# Altium footprint library SGK_DVR_01.PcbLib: 37 footprints (part 1 of 3)
Each footprint in its own frame and in the unit in brackets; x right, y up, seen from the top. Pads: shape width x height; smd on the part's side, far side on the other; paste and mask are expansions set on the pad; w line width, h text height; cw(c..) or ccw(c..) is an arc to the next point about the centre after c.
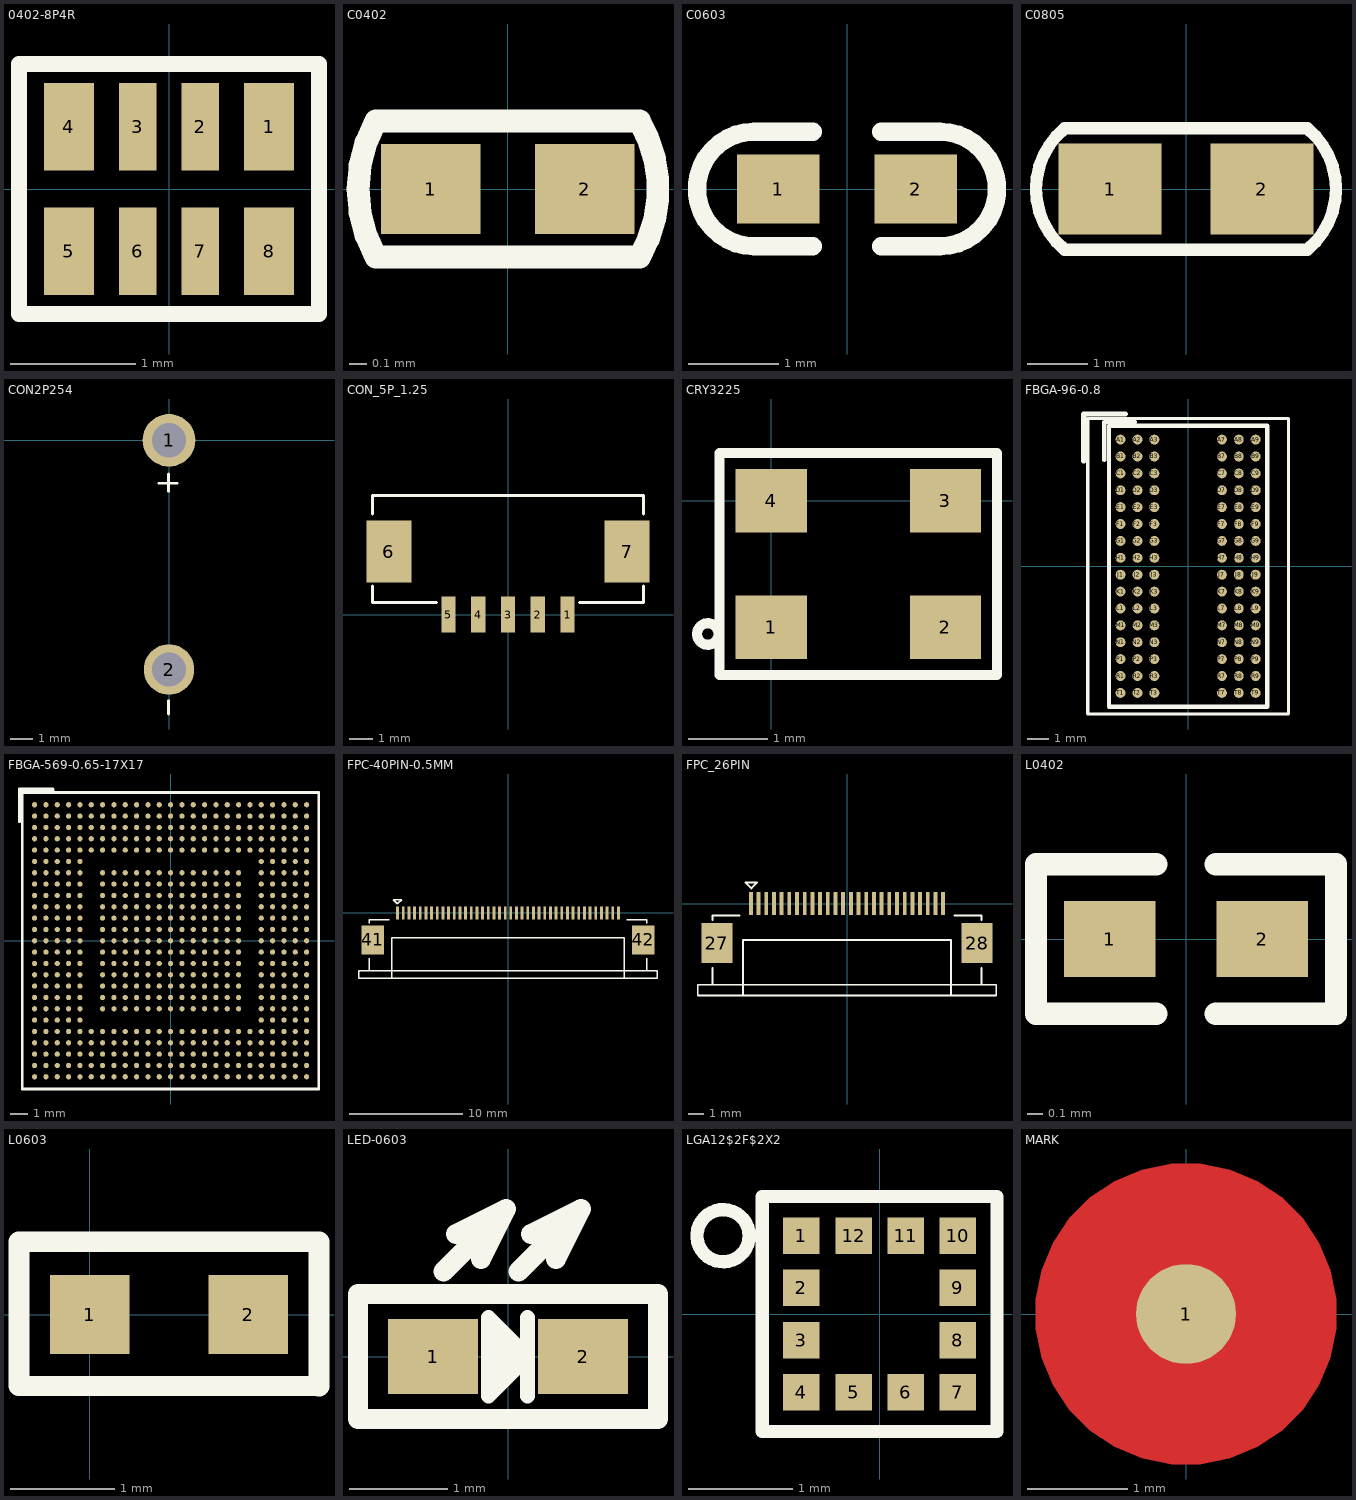
[diagram p0: the footprints below, top view; thin cyan lines are the x and y axes]

## 0402-8P4R [mm]
pads (8):
  rect 0.4x0.7 smd: 1(0.8,0.5) 4(-0.8,0.5) 5(-0.8,-0.5) 8(0.8,-0.5)
  rect 0.3x0.7 smd: 2(0.25,0.5) 3(-0.25,0.5) 6(-0.25,-0.5) 7(0.25,-0.5)
Top Overlay:
  lines w0.127: -1.2,-1 1.2,-1 1.2,1 -1.2,1 -1.2,-1

## C0402 [mil]
pads (2):
  rect 22x20 smd: 1(-17,0) 2(17,0)
Top Overlay:
  lines w5: 29.12,15.06 cw(c3.45,0) 29.15,-15.02 ; 29.13,-15.04 -29.13,-15.04 cw(c-2.55,0) -29.13,15.04 29.13,15.04

## C0603 [mil]
pads (2):
  rect 36x30 smd: 1(-30,0) 2(30,0)
Top Overlay:
  lines w8: -15,-25 -40.49,-25 cw(c-40.49,0) -40.49,25 -15,25 ; 15,-25 40.49,-25 ccw(c40.49,0) 40.49,25 15,25

## C0805 [mm]
pads (2):
  rect 1.7x1.5 smd: 1(-1.25,0) 2(1.25,0)
Top Overlay:
  lines w0.202: -2,-1 cw(c-1.173,0) -2,1 2,1 cw(c1.173,0) 2,-1 -2,-1

## CON2P254 [mm]
pads (2):
  round 2.3 hole 1.5: 1(0,0)
  round 2.2 hole 1.5: 2(0,-10)
Top Overlay:
  lines w0.127: -0.44,-1.87 0.36,-1.87 ; -0.03,-11.94 -0.03,-11.36 ; -0.03,-2.22 -0.03,-1.46

## CON_5P_1.25 [mm]
pads (7):
  rect 0.6x1.5 smd: 1(2.5,0) 2(1.25,0) 3(0,0) 4(-1.25,0) 5(-2.5,0)
  rect 1.9x2.6 smd: 6(-5,2.65) 7(5,2.65)
Top Overlay:
  lines w0.127: -5.7,1.21 -5.7,0.5 -3,0.5 ; -5.7,4.22 -5.7,5 5.7,5 5.7,4.22 ; 3,0.5 5.7,0.5 5.7,1.21

## CRY3225 [mm]
pads (4):
  rect 0.9x0.8 smd: 1(0,-1.6) 2(2.2,-1.6) 3(2.2,0) 4(0,0)
Top Overlay:
  circle w0.127: c-0.8,-1.683 r0.136
  lines w0.127: -0.65,-2.2 2.85,-2.2 2.85,0.6 -0.65,0.6 -0.65,-2.2

## FBGA-96-0.8 [mm]
pads (96):
  round 0.47 smd: A1(-3.2,6) A2(-2.4,6) A3(-1.6,6) A7(1.6,6) A8(2.4,6) A9(3.2,6) B1(-3.2,5.2) B2(-2.4,5.2) B3(-1.6,5.2) B7(1.6,5.2) B8(2.4,5.2) B9(3.2,5.2) C1(-3.2,4.4) C2(-2.4,4.4) C3(-1.6,4.4) C7(1.6,4.4) C8(2.4,4.4) C9(3.2,4.4) D1(-3.2,3.6) D2(-2.4,3.6) D3(-1.6,3.6) D7(1.6,3.6) D8(2.4,3.6) D9(3.2,3.6) E1(-3.2,2.8) E2(-2.4,2.8) E3(-1.6,2.8) E7(1.6,2.8) E8(2.4,2.8) E9(3.2,2.8) F1(-3.2,2) F2(-2.4,2) F3(-1.6,2) F7(1.6,2) F8(2.4,2) F9(3.2,2) G1(-3.2,1.2) G2(-2.4,1.2) G3(-1.6,1.2) G7(1.6,1.2) G8(2.4,1.2) G9(3.2,1.2) H1(-3.2,0.4) H2(-2.4,0.4) H3(-1.6,0.4) H7(1.6,0.4) H8(2.4,0.4) H9(3.2,0.4) J1(-3.2,-0.4) J2(-2.4,-0.4) J3(-1.6,-0.4) J7(1.6,-0.4) J8(2.4,-0.4) J9(3.2,-0.4) K1(-3.2,-1.2) K2(-2.4,-1.2) K3(-1.6,-1.2) K7(1.6,-1.2) K8(2.4,-1.2) K9(3.2,-1.2) L1(-3.2,-2) L2(-2.4,-2) L3(-1.6,-2) L7(1.6,-2) L8(2.4,-2) L9(3.2,-2) M1(-3.2,-2.8) M2(-2.4,-2.8) M3(-1.6,-2.8) M7(1.6,-2.8) M8(2.4,-2.8) M9(3.2,-2.8) N1(-3.2,-3.6) N2(-2.4,-3.6) N3(-1.6,-3.6) N7(1.6,-3.6) N8(2.4,-3.6) N9(3.2,-3.6) P1(-3.2,-4.4) P2(-2.4,-4.4) P3(-1.6,-4.4) P7(1.6,-4.4) P8(2.4,-4.4) P9(3.2,-4.4) R1(-3.2,-5.2) R2(-2.4,-5.2) R3(-1.6,-5.2) R7(1.6,-5.2) R8(2.4,-5.2) R9(3.2,-5.2) T1(-3.2,-6) T2(-2.4,-6) T3(-1.6,-6) T7(1.6,-6) T8(2.4,-6) T9(3.2,-6)
Top Overlay:
  lines w0.152: -4.75,-7 4.75,-7 4.75,7 -4.75,7 -4.75,-7
  lines w0.203: -3.97,5.03 -3.97,6.83 -2.52,6.83 ; -3.75,-6.65 3.75,-6.65 3.75,6.65 -3.75,6.65 -3.75,-6.65
  lines w0.25: -4.95,4.982 -4.95,7.213 -2.972,7.213

## FBGA-569-0.65-17X17 [mm]
pads (569):
  round 0.3 smd: A1(-7.8,7.8) A2(-7.15,7.8) A3(-6.5,7.8) A4(-5.85,7.8) A5(-5.2,7.8) A6(-4.55,7.8) A7(-3.9,7.8) A8(-3.25,7.8) A9(-2.6,7.8) A10(-1.95,7.8) A11(-1.3,7.8) A12(-0.65,7.8) A13(0,7.8) A14(0.65,7.8) A15(1.3,7.8) A16(1.95,7.8) A17(2.6,7.8) A18(3.25,7.8) A19(3.9,7.8) A20(4.55,7.8) A21(5.2,7.8) A22(5.85,7.8) A23(6.5,7.8) A24(7.15,7.8) A25(7.8,7.8) AA1(-7.8,-5.2) AA2(-7.15,-5.2) AA3(-6.5,-5.2) AA4(-5.85,-5.2) AA5(-5.2,-5.2) AA6(-4.55,-5.2) AA7(-3.9,-5.2) AA8(-3.25,-5.2) AA9(-2.6,-5.2) AA10(-1.95,-5.2) AA11(-1.3,-5.2) AA12(-0.65,-5.2) AA13(0,-5.2) AA14(0.65,-5.2) AA15(1.3,-5.2) AA16(1.95,-5.2) AA17(2.6,-5.2) AA18(3.25,-5.2) AA19(3.9,-5.2) AA20(4.55,-5.2) AA21(5.2,-5.2) AA22(5.85,-5.2) AA23(6.5,-5.2) AA24(7.15,-5.2) AA25(7.8,-5.2) AB1(-7.8,-5.85) AB2(-7.15,-5.85) AB3(-6.5,-5.85) AB4(-5.85,-5.85) AB5(-5.2,-5.85) AB6(-4.55,-5.85) AB7(-3.9,-5.85) AB8(-3.25,-5.85) AB9(-2.6,-5.85) AB10(-1.95,-5.85) AB11(-1.3,-5.85) AB12(-0.65,-5.85) AB13(0,-5.85) AB14(0.65,-5.85) AB15(1.3,-5.85) AB16(1.95,-5.85) AB17(2.6,-5.85) AB18(3.25,-5.85) AB19(3.9,-5.85) AB20(4.55,-5.85) AB21(5.2,-5.85) AB22(5.85,-5.85) AB23(6.5,-5.85) AB24(7.15,-5.85) AB25(7.8,-5.85) AC1(-7.8,-6.5) AC2(-7.15,-6.5) AC3(-6.5,-6.5) AC4(-5.85,-6.5) AC5(-5.2,-6.5) AC6(-4.55,-6.5) AC7(-3.9,-6.5) AC8(-3.25,-6.5) AC9(-2.6,-6.5) AC10(-1.95,-6.5) AC11(-1.3,-6.5) AC12(-0.65,-6.5) AC13(0,-6.5) AC14(0.65,-6.5) AC15(1.3,-6.5) AC16(1.95,-6.5) AC17(2.6,-6.5) AC18(3.25,-6.5) AC19(3.9,-6.5) AC20(4.55,-6.5) AC21(5.2,-6.5) AC22(5.85,-6.5) AC23(6.5,-6.5) AC24(7.15,-6.5) AC25(7.8,-6.5) AD1(-7.8,-7.15) AD2(-7.15,-7.15) AD3(-6.5,-7.15) AD4(-5.85,-7.15) AD5(-5.2,-7.15) AD6(-4.55,-7.15) AD7(-3.9,-7.15) AD8(-3.25,-7.15) AD9(-2.6,-7.15) AD10(-1.95,-7.15) AD11(-1.3,-7.15) AD12(-0.65,-7.15) AD13(0,-7.15) AD14(0.65,-7.15) AD15(1.3,-7.15) AD16(1.95,-7.15) AD17(2.6,-7.15) AD18(3.25,-7.15) AD19(3.9,-7.15) AD20(4.55,-7.15) AD21(5.2,-7.15) AD22(5.85,-7.15) AD23(6.5,-7.15) AD24(7.15,-7.15) AD25(7.8,-7.15) AE1(-7.8,-7.8) AE2(-7.15,-7.8) AE3(-6.5,-7.8) AE4(-5.85,-7.8) AE5(-5.2,-7.8) AE6(-4.55,-7.8) AE7(-3.9,-7.8) AE8(-3.25,-7.8) AE9(-2.6,-7.8) AE10(-1.95,-7.8) AE11(-1.3,-7.8) AE12(-0.65,-7.8) AE13(0,-7.8) AE14(0.65,-7.8) AE15(1.3,-7.8) AE16(1.95,-7.8) AE17(2.6,-7.8) AE18(3.25,-7.8) AE19(3.9,-7.8) AE20(4.55,-7.8) AE21(5.2,-7.8) AE22(5.85,-7.8) AE23(6.5,-7.8) AE24(7.15,-7.8) AE25(7.8,-7.8) B1(-7.8,7.15) B2(-7.15,7.15) B3(-6.5,7.15) B4(-5.85,7.15) B5(-5.2,7.15) B6(-4.55,7.15) B7(-3.9,7.15) B8(-3.25,7.15) B9(-2.6,7.15) B10(-1.95,7.15) B11(-1.3,7.15) B12(-0.65,7.15) B13(0,7.15) B14(0.65,7.15) B15(1.3,7.15) B16(1.95,7.15) B17(2.6,7.15) B18(3.25,7.15) B19(3.9,7.15) B20(4.55,7.15) B21(5.2,7.15) B22(5.85,7.15) B23(6.5,7.15) B24(7.15,7.15) B25(7.8,7.15) C1(-7.8,6.5) C2(-7.15,6.5) C3(-6.5,6.5) C4(-5.85,6.5) C5(-5.2,6.5) C6(-4.55,6.5) C7(-3.9,6.5) C8(-3.25,6.5) C9(-2.6,6.5) C10(-1.95,6.5) C11(-1.3,6.5) C12(-0.65,6.5) C13(0,6.5) C14(0.65,6.5) C15(1.3,6.5) C16(1.95,6.5) C17(2.6,6.5) C18(3.25,6.5) C19(3.9,6.5) C20(4.55,6.5) C21(5.2,6.5) C22(5.85,6.5) C23(6.5,6.5) C24(7.15,6.5) C25(7.8,6.5) D1(-7.8,5.85) D2(-7.15,5.85) D3(-6.5,5.85) D4(-5.85,5.85) D5(-5.2,5.85) D6(-4.55,5.85) D7(-3.9,5.85) D8(-3.25,5.85) D9(-2.6,5.85) D10(-1.95,5.85) D11(-1.3,5.85) D12(-0.65,5.85) D13(0,5.85) D14(0.65,5.85) D15(1.3,5.85) D16(1.95,5.85) D17(2.6,5.85) D18(3.25,5.85) D19(3.9,5.85) D20(4.55,5.85) D21(5.2,5.85) D22(5.85,5.85) D23(6.5,5.85) D24(7.15,5.85) D25(7.8,5.85) E1(-7.8,5.2) E2(-7.15,5.2) E3(-6.5,5.2) E4(-5.85,5.2) E5(-5.2,5.2) E6(-4.55,5.2) E7(-3.9,5.2) E8(-3.25,5.2) E9(-2.6,5.2) E10(-1.95,5.2) E11(-1.3,5.2) E12(-0.65,5.2) E13(0,5.2) E14(0.65,5.2) E15(1.3,5.2) E16(1.95,5.2) E17(2.6,5.2) E18(3.25,5.2) E19(3.9,5.2) E20(4.55,5.2) E21(5.2,5.2) E22(5.85,5.2) E23(6.5,5.2) E24(7.15,5.2) E25(7.8,5.2) F1(-7.8,4.55) F2(-7.15,4.55) F3(-6.5,4.55) F4(-5.85,4.55) F5(-5.2,4.55) F21(5.2,4.55) F22(5.85,4.55) F23(6.5,4.55) F24(7.15,4.55) F25(7.8,4.55) G1(-7.8,3.9) G2(-7.15,3.9) G3(-6.5,3.9) G4(-5.85,3.9) G5(-5.2,3.9) G7(-3.9,3.9) G8(-3.25,3.9) G9(-2.6,3.9) G10(-1.95,3.9) G11(-1.3,3.9) G12(-0.65,3.9) G13(0,3.9) G14(0.65,3.9) G15(1.3,3.9) G16(1.95,3.9) G17(2.6,3.9) G18(3.25,3.9) G19(3.9,3.9) G21(5.2,3.9) G22(5.85,3.9) G23(6.5,3.9) G24(7.15,3.9) G25(7.8,3.9) H1(-7.8,3.25) H2(-7.15,3.25) H3(-6.5,3.25) H4(-5.85,3.25) H5(-5.2,3.25) H7(-3.9,3.25) H8(-3.25,3.25) H9(-2.6,3.25) H10(-1.95,3.25) H11(-1.3,3.25) H12(-0.65,3.25) H13(0,3.25) H14(0.65,3.25) H15(1.3,3.25) H16(1.95,3.25) H17(2.6,3.25) H18(3.25,3.25) H19(3.9,3.25) H21(5.2,3.25) H22(5.85,3.25) H23(6.5,3.25) H24(7.15,3.25) H25(7.8,3.25) J1(-7.8,2.6) J2(-7.15,2.6) J3(-6.5,2.6) J4(-5.85,2.6) J5(-5.2,2.6) J7(-3.9,2.6) J8(-3.25,2.6) J9(-2.6,2.6) J10(-1.95,2.6) J11(-1.3,2.6) J12(-0.65,2.6) J13(0,2.6) J14(0.65,2.6) J15(1.3,2.6) J16(1.95,2.6) J17(2.6,2.6) J18(3.25,2.6) J19(3.9,2.6) J21(5.2,2.6) J22(5.85,2.6) J23(6.5,2.6) J24(7.15,2.6) J25(7.8,2.6) K1(-7.8,1.95) K2(-7.15,1.95) K3(-6.5,1.95) K4(-5.85,1.95) K5(-5.2,1.95) K7(-3.9,1.95) K8(-3.25,1.95) K9(-2.6,1.95) K10(-1.95,1.95) K11(-1.3,1.95) K12(-0.65,1.95) K13(0,1.95) K14(0.65,1.95) K15(1.3,1.95) K16(1.95,1.95) K17(2.6,1.95) K18(3.25,1.95) K19(3.9,1.95) K21(5.2,1.95) K22(5.85,1.95) K23(6.5,1.95) K24(7.15,1.95) K25(7.8,1.95) L1(-7.8,1.3) L2(-7.15,1.3) L3(-6.5,1.3) L4(-5.85,1.3) L5(-5.2,1.3) L7(-3.9,1.3) L8(-3.25,1.3) L9(-2.6,1.3) L10(-1.95,1.3) L11(-1.3,1.3) L12(-0.65,1.3) L13(0,1.3) L14(0.65,1.3) L15(1.3,1.3) L16(1.95,1.3) L17(2.6,1.3) L18(3.25,1.3) L19(3.9,1.3) L21(5.2,1.3) L22(5.85,1.3) L23(6.5,1.3) L24(7.15,1.3) L25(7.8,1.3) M1(-7.8,0.65) M2(-7.15,0.65) M3(-6.5,0.65) M4(-5.85,0.65) M5(-5.2,0.65) M7(-3.9,0.65) M8(-3.25,0.65) M9(-2.6,0.65) M10(-1.95,0.65) M11(-1.3,0.65) M12(-0.65,0.65) M13(0,0.65) M14(0.65,0.65) M15(1.3,0.65) M16(1.95,0.65) M17(2.6,0.65) M18(3.25,0.65) M19(3.9,0.65) M21(5.2,0.65) M22(5.85,0.65) M23(6.5,0.65) M24(7.15,0.65) M25(7.8,0.65) N1(-7.8,0) N2(-7.15,0) N3(-6.5,0) N4(-5.85,0) N5(-5.2,0) N7(-3.9,0) N8(-3.25,0) N9(-2.6,0) N10(-1.95,0) N11(-1.3,0) N12(-0.65,0) N13(0,0) N14(0.65,0) N15(1.3,0) N16(1.95,0) N17(2.6,0) N18(3.25,0) N19(3.9,0) N21(5.2,0) N22(5.85,0) N23(6.5,0) N24(7.15,0) N25(7.8,0) P1(-7.8,-0.65) P2(-7.15,-0.65) P3(-6.5,-0.65) P4(-5.85,-0.65) P5(-5.2,-0.65) P7(-3.9,-0.65) P8(-3.25,-0.65) P9(-2.6,-0.65) P10(-1.95,-0.65) P11(-1.3,-0.65) P12(-0.65,-0.65) P13(0,-0.65) P14(0.65,-0.65) P15(1.3,-0.65) P16(1.95,-0.65) P17(2.6,-0.65) P18(3.25,-0.65) P19(3.9,-0.65) P21(5.2,-0.65) P22(5.85,-0.65) P23(6.5,-0.65) P24(7.15,-0.65) P25(7.8,-0.65) R1(-7.8,-1.3) R2(-7.15,-1.3) R3(-6.5,-1.3) R4(-5.85,-1.3) R5(-5.2,-1.3) R7(-3.9,-1.3) R8(-3.25,-1.3) R9(-2.6,-1.3) R10(-1.95,-1.3) R11(-1.3,-1.3) R12(-0.65,-1.3) R13(0,-1.3) R14(0.65,-1.3) R15(1.3,-1.3) R16(1.95,-1.3) R17(2.6,-1.3) R18(3.25,-1.3) R19(3.9,-1.3) R21(5.2,-1.3) R22(5.85,-1.3) R23(6.5,-1.3) R24(7.15,-1.3) R25(7.8,-1.3) T1(-7.8,-1.95) T2(-7.15,-1.95) T3(-6.5,-1.95) T4(-5.85,-1.95) T5(-5.2,-1.95) T7(-3.9,-1.95) T8(-3.25,-1.95) T9(-2.6,-1.95) T10(-1.95,-1.95) T11(-1.3,-1.95) T12(-0.65,-1.95) T13(0,-1.95) T14(0.65,-1.95) T15(1.3,-1.95) T16(1.95,-1.95) T17(2.6,-1.95) T18(3.25,-1.95) T19(3.9,-1.95) T21(5.2,-1.95) T22(5.85,-1.95) T23(6.5,-1.95) T24(7.15,-1.95) T25(7.8,-1.95) U1(-7.8,-2.6) U2(-7.15,-2.6) U3(-6.5,-2.6) U4(-5.85,-2.6) U5(-5.2,-2.6) U7(-3.9,-2.6) U8(-3.25,-2.6) U9(-2.6,-2.6) U10(-1.95,-2.6) U11(-1.3,-2.6) U12(-0.65,-2.6) U13(0,-2.6) U14(0.65,-2.6) U15(1.3,-2.6) U16(1.95,-2.6) U17(2.6,-2.6) U18(3.25,-2.6) U19(3.9,-2.6) U21(5.2,-2.6) U22(5.85,-2.6) U23(6.5,-2.6) U24(7.15,-2.6) U25(7.8,-2.6) V1(-7.8,-3.25) V2(-7.15,-3.25) V3(-6.5,-3.25) V4(-5.85,-3.25) V5(-5.2,-3.25) V7(-3.9,-3.25) V8(-3.25,-3.25) V9(-2.6,-3.25) V10(-1.95,-3.25) V11(-1.3,-3.25) V12(-0.65,-3.25) V13(0,-3.25) V14(0.65,-3.25) V15(1.3,-3.25) V16(1.95,-3.25) V17(2.6,-3.25) V18(3.25,-3.25) V19(3.9,-3.25) V21(5.2,-3.25) V22(5.85,-3.25) V23(6.5,-3.25) V24(7.15,-3.25) V25(7.8,-3.25) W1(-7.8,-3.9) W2(-7.15,-3.9) W3(-6.5,-3.9) W4(-5.85,-3.9) W5(-5.2,-3.9) W7(-3.9,-3.9) W8(-3.25,-3.9) W9(-2.6,-3.9) W10(-1.95,-3.9) W11(-1.3,-3.9) W12(-0.65,-3.9) W13(0,-3.9) W14(0.65,-3.9) W15(1.3,-3.9) W16(1.95,-3.9) W17(2.6,-3.9) W18(3.25,-3.9) W19(3.9,-3.9) W21(5.2,-3.9) W22(5.85,-3.9) W23(6.5,-3.9) W24(7.15,-3.9) W25(7.8,-3.9) Y1(-7.8,-4.55) Y2(-7.15,-4.55) Y3(-6.5,-4.55) Y4(-5.85,-4.55) Y5(-5.2,-4.55) Y21(5.2,-4.55) Y22(5.85,-4.55) Y23(6.5,-4.55) Y24(7.15,-4.55) Y25(7.8,-4.55)
Top Overlay:
  lines w0.152: -8.685,6.835 -8.685,8.705 -6.745,8.705 ; -8.575,6.825 -8.575,8.59 -6.73,8.59 ; -8.5,-8.5 8.5,-8.5 8.5,8.5 -8.5,8.5 -8.5,-8.5

## FPC-40PIN-0.5MM [mm]
pads (42):
  rect 0.25x1.15 smd: 1(-9.75,0) 2(-9.25,0) 3(-8.75,0) 4(-8.25,0) 5(-7.75,0) 6(-7.25,0) 7(-6.75,0) 8(-6.25,0) 9(-5.75,0) 10(-5.25,0) 11(-4.75,0) 12(-4.25,0) 13(-3.75,0) 14(-3.25,0) 15(-2.75,0) 16(-2.25,0) 17(-1.75,0) 18(-1.25,0) 19(-0.75,0) 20(-0.25,0) 21(0.25,0) 22(0.75,0) 23(1.25,0) 24(1.75,0) 25(2.25,0) 26(2.75,0) 27(3.25,0) 28(3.75,0) 29(4.25,0) 30(4.75,0) 31(5.25,0) 32(5.75,0) 33(6.25,0) 34(6.75,0) 35(7.25,0) 36(7.75,0) 37(8.25,0) 38(8.75,0) 39(9.25,0) 40(9.75,0)
  rect 2x2.6 smd: 41(-11.95,-2.4) 42(11.95,-2.4)
Top Overlay:
  lines w0.127: -12.25,-4 -12.25,-5.1 -13.2,-5.1 ; -12.25,-0.9 -12.25,-0.6 -10.5,-0.6 ; -10.25,-5.8 -10.25,-2.2 10.25,-2.2 10.25,-5.8 ; 10.5,-0.6 12.25,-0.6 12.25,-0.9 ; 12.25,-4 12.25,-5.1 13.2,-5.1 ; -13.2,-5.1 -13.2,-5.8 13.2,-5.8 13.2,-5.1 ; -13.2,-5.1 13.2,-5.1 ; -10.151,1.173 -9.389,1.173 -9.77,0.792 -10.151,1.173

## FPC_26PIN [mm]
pads (28):
  rect 0.25x1.5 smd: 1(-6.25,0) 2(-5.75,0) 3(-5.25,0) 4(-4.75,0) 5(-4.25,0) 6(-3.75,0) 7(-3.25,0) 8(-2.75,0) 9(-2.25,0) 10(-1.75,0) 11(-1.25,0) 12(-0.75,0) 13(-0.25,0) 14(0.25,0) 15(0.75,0) 16(1.25,0) 17(1.75,0) 18(2.25,0) 19(2.75,0) 20(3.25,0) 21(3.75,0) 22(4.25,0) 23(4.75,0) 24(5.25,0) 25(5.75,0) 26(6.25,0)
  rect 2x2.6 smd: 27(-8.45,-2.575) 28(8.45,-2.575)
Top Overlay:
  lines w0.127: -8.75,-4.175 -8.75,-5.275 -9.7,-5.275 ; -8.75,-1.075 -8.75,-0.775 -7,-0.775 ; -6.75,-5.975 -6.75,-2.375 6.75,-2.375 6.75,-5.975 ; 7,-0.775 8.75,-0.775 8.75,-1.075 ; 8.75,-4.175 8.75,-5.275 9.7,-5.275 ; -9.7,-5.275 -9.7,-5.975 9.7,-5.975 9.7,-5.275 ; -9.7,-5.275 9.7,-5.275 ; -6.599,1.373 -5.837,1.373 -6.218,0.992 -6.599,1.373

## L0402 [mil]
pads (2):
  rect 24x20 smd: 1(-20,0) 2(20,0)
Top Overlay:
  lines w5.91: -7.87,-19.68 -39.37,-19.68 -39.37,19.68 -7.87,19.68 ; 7.87,-19.68 39.37,-19.68 39.37,19.68 7.87,19.68

## L0603 [mil]
pads (2):
  rect 30x30 smd: 1(0,0) 2(60,0)
Top Overlay:
  lines w7.87: -26.79,-26.93 -26.79,27.56 86.79,27.56 86.79,-27.13 -26.79,-26.93

## LED-0603 [mil]
pads (2):
  rect 36x30 smd: 1(-30,0) 2(30,0)
Top Overlay:
  lines w6: -3.94,7.87 -3.94,-7.87 0,-3.94 0,3.94 3.94,0 ; 7.87,-15.75 7.87,15.75 ; -7.87,-15.75 -7.87,15.75 7.87,0 -7.87,-15.75
  lines w8: -25.75,34.13 -0.75,59.13 ; -20.75,49.13 -0.75,59.13 ; -10.75,39.13 -0.75,59.13 ; 4.25,34.13 29.25,59.13 ; 9.25,49.13 29.25,59.13 ; 19.25,39.13 29.25,59.13 ; -60,-25 -60,25 60,25 60,-25 -60,-25

## LGA12$2F$2X2 [mm]
pads (12):
  rect 0.35x0.35 smd: 1(-0.75,0.75) 2(-0.75,0.25) 3(-0.75,-0.25) 4(-0.75,-0.75) 5(-0.25,-0.75) 6(0.25,-0.75) 7(0.75,-0.75) 8(0.75,-0.25) 9(0.75,0.25) 10(0.75,0.75) 11(0.25,0.75) 12(-0.25,0.75)
Top Overlay:
  circle w0.127: c-1.5,0.75 r0.25
  lines w0.127: -1.125,-1.125 1.125,-1.125 1.125,1.125 -1.125,1.125 -1.125,-1.125

## MARK [mm]
pads (1):
  round 1 smd: 1(0,0)
Top Layer:
  region: 1.5,0 1.5,0.148 1.442,0.438 1.329,0.711 1.165,0.956 0.956,1.165 0.711,1.329 0.438,1.442 0.148,1.5 0,1.5 -0.148,1.5 -0.438,1.442 -0.711,1.329 -0.956,1.165 -1.165,0.956 -1.329,0.711 -1.442,0.438 -1.5,0.148 -1.5,0 -1.5,-0.148 -1.442,-0.438 -1.329,-0.711 -1.165,-0.956 -0.956,-1.165 -0.711,-1.329 -0.438,-1.442 -0.148,-1.5 0,-1.5 0.148,-1.5 0.438,-1.442 0.711,-1.329 0.956,-1.165 1.165,-0.956 1.329,-0.711 1.442,-0.438 1.5,-0.148